# Altium integrated library Analog Devices RF IF Timing ICs and Clocks.IntLib: 168 symbols (part 13 of 18)
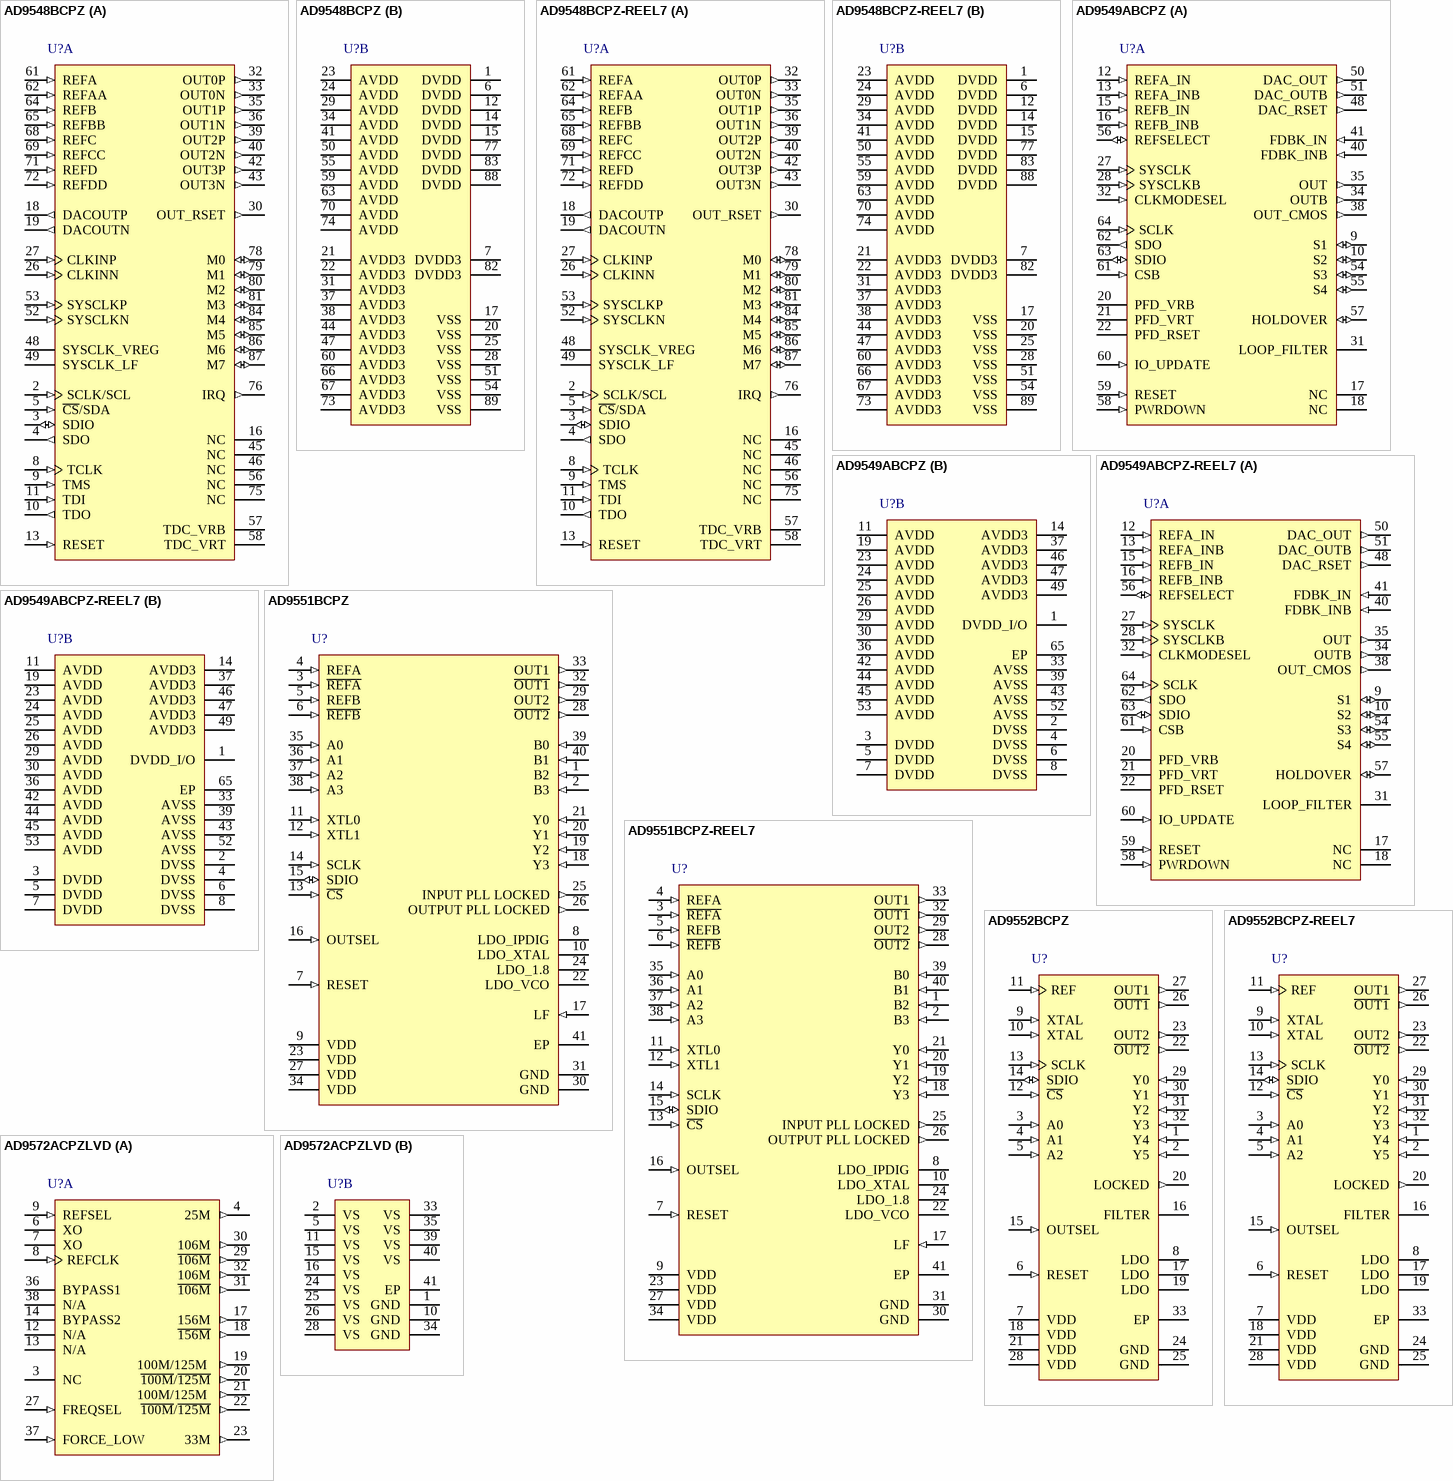
[diagram p27: symbols AD9548BCPZ to AD9572ACPZLVD]

## AD9549ABCPZ
designator U?
Dual Input Network ClockGenerator/Synchronizer, CP-64-7, Pb-Free, 260 Tray; Product Description: Clock Generator Synchronizer; +Supply Voltage (V): 3.3; Inputs: 2; Dividers: 1; On-Chip VCO or DCO: Yes; Max f-out (MHz): 750; Output Logic: CMOS; HSTL; DatasheetVersion: Rev. D; PackageVersion: 062209-A; PackageReference: CP-64-7; PackageDescription: 64-Lead Lead Frame Chip Scale Package [LFCSP_VQ]; Outputs: 2; Code_JEDEC: MO-220-VMMD-4; ComponentLink1Description: Manufacturer URL; ComponentLink1URL: www.analog.com; ComponentLink2Description: Datasheet; ComponentLink2URL: http://www.analog.com/static/imported-files/data_sheets/AD9549.pdf; ComponentLink3Description: Package Specification; ComponentLink3URL: http://www.analog.com/static/imported-files/packages/PKG_PDF/LFCSP(CP)/CP_64_7.pdf
footprint ADI-CP-64-7_N (QFN, 64-Leads, Body 9x9mm, Pitch 0.5mm, Thermal Pad 5.2x5.2mm, IPC Medium Density)
footprint ADI-CP-64-7_L (QFN, 64-Leads, Body 9x9mm, Pitch 0.5mm, Thermal Pad 5.2x5.2mm, IPC High Density)
footprint ADI-CP-64-7_M (QFN, 64-Leads, Body 9x9mm, Pitch 0.5mm, Thermal Pad 5.2x5.2mm, IPC Low Density)
part A pins: 9 S1 (io) "Configurable I/O Pins. [see datasheet]", 10 S2 (io) "Configurable I/O Pins. [see datasheet]", 12 REFA_IN (in) "Frequency/Phase Reference A Input. [see datasheet]", 13 REFA_INB (in) "Complementary Frequency/Phase Reference A Input. Complementary signal to the input provided on Pin 12. If using a single-ended, dc-coupled CMOS signal into REFA_IN, bypass this pin to ground with a 0.01 uF capacitor", 15 REFB_IN (in) "Frequency/Phase Reference B Input. This internally biased input is typically ac-coupled and, when configured as such, can accept any differential signal with single-ended swing between 0.4 V and 3.3 V. If dc-coupled, LVPECL or CMOS input is preferred.", 16 REFB_INB (in) "Complementary Frequency/Phase Reference B Input. Complementary signal to the input provided on Pin 15. If using a single-ended, dc-coupled CMOS signal into REFB_IN, bypass this pin to ground with a 0.01 uF capacitor.", 17 NC "No Connect. These are excess, unused pins that can be left floating", 18 NC "No Connect. These are excess, unused pins that can be left floating", 20 PFD_VRB "These pins must be capacitively decoupled. See the Phase Detector Pin Connections section for details.", 21 PFD_VRT "These pins must be capacitively decoupled. See the Phase Detector Pin Connections section for details.", 22 PFD_RSET "Connect a 5 K ohm resistor from this pin to ground (see the Phase Detector Pin Connections section).", 27 SYSCLK (in) "System Clock Input. The system clock input has internal dc biasing and should always be ac-coupled, except when using a crystal. [see datasheet]", 28 SYSCLKB (in) "Complementary System Clock. Complementary signal to the input provided on Pin 27. Use a 0.01 uF capacitor to ground on this pin if the signal provided on Pin 27 is single-ended.", 31 LOOP_FILTER "System Clock Multiplier Loop Filter. When using the frequency multiplier to drive the system clock, an external loop filter must be constructed and attached to this pin. [see datasheet]", 32 CLKMODESEL (in) "Clock Mode Select. Set to GND when connecting a crystal to the system clock input (Pin 27 and Pin 28). Pull up to 1.8 V when using either an oscillator or an external clock source. [see datasheet]", 34 OUTB (out) "Complementary HSTL Output. See the Specifications and Primary 1.8 V Differential HSTL Driver sections for details.", 35 OUT (out) "HSTL Output. See the Specifications and Primary 1.8 V Differential HSTL Driver sections for details.", 38 OUT_CMOS (out) "CMOS Output. See the Specifications and the Output Clock Drivers and 2× Frequency Multiplier sections. This pin is 1.8 V CMOS if Pin 37 is set to 1.8 V.", 40 FDBK_INB (in) "Complementary Feedback Input. In standard operating mode, this pin is connected to the filtered DAC_OUTB output. [see datasheet]", 41 FDBK_IN (in) "Feedback Input. In standard operating mode, this pin is connected to the filtered DAC_OUT output.", 48 DAC_RSET (out) "DAC Output Current Setting Resistor. Connect a resistor (usually 10 K ohm) from this pin to GND. See the DAC Output section.", 50 DAC_OUT (out) "DAC Output. This signal should be filtered and sent back on chip through FDBK_IN input. This pin has an internal 50  ohm pull-down resistor.", 51 DAC_OUTB (out) "Complementary DAC Output. This signal should be filtered and sent back on chip through FDBK_INB input. This pin has an internal 50  ohm pull-down resistor.", 54 S3 (io) "Configurable I/O Pins. These pins are configured under program control (see the Status and Warnings section) and do not have internal pull-up/pull-down resistors.", 55 S4 (io) "Configurable I/O Pins. These pins are configured under program control (see the Status and Warnings section) and do not have internal pull-up/pull-down resistors.", 56 REFSELECT (io) "Reference Select Input. In manual mode, the REFSELECT pin operates as a high impedance input pin; and in automatic mode, [see datasheet].", 57 HOLDOVER (io) "Holdover (Active High). In manual holdover mode, this pin is used to force the AD9549 into holdover mode. In automatic holdover mode, it indicates holdover status. There is no internal pull-up/pull-down resistor on this pin.", 58 PWRDOWN (in) "Power-Down. When this active high pin is asserted, the device becomes inactive and enters the full power-down state. This pin has an internal 50 K ohm pull-down resistor.", 59 RESET (in) "Chip Reset. When this active high pin is asserted, the chip goes into reset. Note that on power-up, it is recommended that the user assert a high to low edge after the power supplies reach a threshold and stabilize. [see datasheet].", 60 IO_UPDATE (in) "I/O Update. A logic transition from 0 to 1 on this pin transfers data from the I/O port registers to the control registers (see the Write section). This pin has an internal 50 K ohm pull-down resistor.", 61 CSB (in) "Chip Select. Active low. When programming a device, this pin must be held low. In systems where more than one AD9549 is present, this pin enables individual programming of each AD9549. This pin has an internal 100 K ohm pull-up resistor.", 62 SDO (out) "Serial Data Output. When the device is in 3-wire mode, data is read on this pin. There is no internal pull-up/pull-down resistor on this pin.", 63 SDIO (io) "Serial Data Input/Output. When the device is in 3-wire mode, data is written via this pin. In 2-wire mode, data reads and writes both occur on this pin. There is no internal pull-up/pull-down resistor on this pin.", 64 SCLK (in) "Serial Programming Clock. Data clock for serial programming. This pin has an internal 50 K ohm pull-down resistor."
part B pins: 1 DVDD_I/O (power) "I/O Digital Supply.", 2 DVSS (power) "Digital Ground. Connect to ground", 3 DVDD (power) "Digital Supply.", 4 DVSS (power) "Digital Ground. Connect to ground", 5 DVDD (power) "Digital Supply.", 6 DVSS (power) "Digital Ground. Connect to ground", 7 DVDD (power) "Digital Supply.", 8 DVSS (power) "Digital Ground. Connect to ground", 11 AVDD (power) "Analog Supply. Connect to a nominal 1.8 V supply", 14 AVDD3 (power) "Analog Supply. Connect to a nominal 3.3 V supply", 19 AVDD (power) "Analog Supply. Connect to a nominal 1.8 V supply", 23 AVDD (power) "Analog Supply. Connect to a nominal 1.8 V supply", 24 AVDD (power) "Analog Supply. Connect to a nominal 1.8 V supply", 25 AVDD (power) "Analog Supply. Connect to a nominal 1.8 V supply", 26 AVDD (power) "Analog Supply. Connect to a nominal 1.8 V supply", 29 AVDD (power) "Analog Supply. Connect to a nominal 1.8 V supply", 30 AVDD (power) "Analog Supply. Connect to a nominal 1.8 V supply", 33 AVSS (power) "Analog Ground. Connect to ground.", 36 AVDD (power) "Analog Supply. Connect to a nominal 1.8 V supply", 37 AVDD3 (power) "Analog Supply. Connect to a nominal 3.3 V supply", 39 AVSS (power) "Analog Ground. Connect to ground.", 42 AVDD (power) "Analog Supply. Connect to a nominal 1.8 V supply", 43 AVSS (power) "Analog Ground. Connect to ground.", 44 AVDD (power) "Analog Supply. Connect to a nominal 1.8 V supply", 45 AVDD (power) "Analog Supply. Connect to a nominal 1.8 V supply", 46 AVDD3 (power) "Analog Supply. Connect to a nominal 3.3 V supply", 47 AVDD3 (power) "Analog Supply. Connect to a nominal 3.3 V supply", 49 AVDD3 (power) "Analog Supply. Connect to a nominal 3.3 V supply", 52 AVSS (power) "Analog Ground. Connect to ground.", 53 AVDD (power) "Analog Supply. Connect to a nominal 1.8 V supply", 65 EP (power) "Analog Ground. The exposed thermal pad on the bottom of the package pro-vides the analog ground for the part. This exposed pad must be connected to ground for proper operation."

## AD9549ABCPZ-REEL7
designator U?
Dual Input Network ClockGenerator/Synchronizer, CP-64-7, Pb-Free, 750 Reel; Product Description: Clock Generator Synchronizer; +Supply Voltage (V): 3.3; Inputs: 2; Dividers: 1; On-Chip VCO or DCO: Yes; Max f-out (MHz): 750; Output Logic: CMOS; HSTL; DatasheetVersion: Rev. D; PackageVersion: 062209-A; PackageReference: CP-64-7; PackageDescription: 64-Lead Lead Frame Chip Scale Package [LFCSP_VQ]; Outputs: 2; Code_JEDEC: MO-220-VMMD-4; ComponentLink1Description: Manufacturer URL; ComponentLink1URL: www.analog.com; ComponentLink2Description: Datasheet; ComponentLink2URL: http://www.analog.com/static/imported-files/data_sheets/AD9549.pdf; ComponentLink3Description: Package Specification; ComponentLink3URL: http://www.analog.com/static/imported-files/packages/PKG_PDF/LFCSP(CP)/CP_64_7.pdf
footprint ADI-CP-64-7_N (QFN, 64-Leads, Body 9x9mm, Pitch 0.5mm, Thermal Pad 5.2x5.2mm, IPC Medium Density)
footprint ADI-CP-64-7_L (QFN, 64-Leads, Body 9x9mm, Pitch 0.5mm, Thermal Pad 5.2x5.2mm, IPC High Density)
footprint ADI-CP-64-7_M (QFN, 64-Leads, Body 9x9mm, Pitch 0.5mm, Thermal Pad 5.2x5.2mm, IPC Low Density)
part A pins: 9 S1 (io) "Configurable I/O Pins. [see datasheet]", 10 S2 (io) "Configurable I/O Pins. [see datasheet]", 12 REFA_IN (in) "Frequency/Phase Reference A Input. [see datasheet]", 13 REFA_INB (in) "Complementary Frequency/Phase Reference A Input. Complementary signal to the input provided on Pin 12. If using a single-ended, dc-coupled CMOS signal into REFA_IN, bypass this pin to ground with a 0.01 uF capacitor", 15 REFB_IN (in) "Frequency/Phase Reference B Input. This internally biased input is typically ac-coupled and, when configured as such, can accept any differential signal with single-ended swing between 0.4 V and 3.3 V. If dc-coupled, LVPECL or CMOS input is preferred.", 16 REFB_INB (in) "Complementary Frequency/Phase Reference B Input. Complementary signal to the input provided on Pin 15. If using a single-ended, dc-coupled CMOS signal into REFB_IN, bypass this pin to ground with a 0.01 uF capacitor.", 17 NC "No Connect. These are excess, unused pins that can be left floating", 18 NC "No Connect. These are excess, unused pins that can be left floating", 20 PFD_VRB "These pins must be capacitively decoupled. See the Phase Detector Pin Connections section for details.", 21 PFD_VRT "These pins must be capacitively decoupled. See the Phase Detector Pin Connections section for details.", 22 PFD_RSET "Connect a 5 K ohm resistor from this pin to ground (see the Phase Detector Pin Connections section).", 27 SYSCLK (in) "System Clock Input. The system clock input has internal dc biasing and should always be ac-coupled, except when using a crystal. [see datasheet]", 28 SYSCLKB (in) "Complementary System Clock. Complementary signal to the input provided on Pin 27. Use a 0.01 uF capacitor to ground on this pin if the signal provided on Pin 27 is single-ended.", 31 LOOP_FILTER "System Clock Multiplier Loop Filter. When using the frequency multiplier to drive the system clock, an external loop filter must be constructed and attached to this pin. [see datasheet]", 32 CLKMODESEL (in) "Clock Mode Select. Set to GND when connecting a crystal to the system clock input (Pin 27 and Pin 28). Pull up to 1.8 V when using either an oscillator or an external clock source. [see datasheet]", 34 OUTB (out) "Complementary HSTL Output. See the Specifications and Primary 1.8 V Differential HSTL Driver sections for details.", 35 OUT (out) "HSTL Output. See the Specifications and Primary 1.8 V Differential HSTL Driver sections for details.", 38 OUT_CMOS (out) "CMOS Output. See the Specifications and the Output Clock Drivers and 2× Frequency Multiplier sections. This pin is 1.8 V CMOS if Pin 37 is set to 1.8 V.", 40 FDBK_INB (in) "Complementary Feedback Input. In standard operating mode, this pin is connected to the filtered DAC_OUTB output. [see datasheet]", 41 FDBK_IN (in) "Feedback Input. In standard operating mode, this pin is connected to the filtered DAC_OUT output.", 48 DAC_RSET (out) "DAC Output Current Setting Resistor. Connect a resistor (usually 10 K ohm) from this pin to GND. See the DAC Output section.", 50 DAC_OUT (out) "DAC Output. This signal should be filtered and sent back on chip through FDBK_IN input. This pin has an internal 50  ohm pull-down resistor.", 51 DAC_OUTB (out) "Complementary DAC Output. This signal should be filtered and sent back on chip through FDBK_INB input. This pin has an internal 50  ohm pull-down resistor.", 54 S3 (io) "Configurable I/O Pins. These pins are configured under program control (see the Status and Warnings section) and do not have internal pull-up/pull-down resistors.", 55 S4 (io) "Configurable I/O Pins. These pins are configured under program control (see the Status and Warnings section) and do not have internal pull-up/pull-down resistors.", 56 REFSELECT (io) "Reference Select Input. In manual mode, the REFSELECT pin operates as a high impedance input pin; and in automatic mode, [see datasheet].", 57 HOLDOVER (io) "Holdover (Active High). In manual holdover mode, this pin is used to force the AD9549 into holdover mode. In automatic holdover mode, it indicates holdover status. There is no internal pull-up/pull-down resistor on this pin.", 58 PWRDOWN (in) "Power-Down. When this active high pin is asserted, the device becomes inactive and enters the full power-down state. This pin has an internal 50 K ohm pull-down resistor.", 59 RESET (in) "Chip Reset. When this active high pin is asserted, the chip goes into reset. Note that on power-up, it is recommended that the user assert a high to low edge after the power supplies reach a threshold and stabilize. [see datasheet].", 60 IO_UPDATE (in) "I/O Update. A logic transition from 0 to 1 on this pin transfers data from the I/O port registers to the control registers (see the Write section). This pin has an internal 50 K ohm pull-down resistor.", 61 CSB (in) "Chip Select. Active low. When programming a device, this pin must be held low. In systems where more than one AD9549 is present, this pin enables individual programming of each AD9549. This pin has an internal 100 K ohm pull-up resistor.", 62 SDO (out) "Serial Data Output. When the device is in 3-wire mode, data is read on this pin. There is no internal pull-up/pull-down resistor on this pin.", 63 SDIO (io) "Serial Data Input/Output. When the device is in 3-wire mode, data is written via this pin. In 2-wire mode, data reads and writes both occur on this pin. There is no internal pull-up/pull-down resistor on this pin.", 64 SCLK (in) "Serial Programming Clock. Data clock for serial programming. This pin has an internal 50 K ohm pull-down resistor."
part B pins: 1 DVDD_I/O (power) "I/O Digital Supply.", 2 DVSS (power) "Digital Ground. Connect to ground", 3 DVDD (power) "Digital Supply.", 4 DVSS (power) "Digital Ground. Connect to ground", 5 DVDD (power) "Digital Supply.", 6 DVSS (power) "Digital Ground. Connect to ground", 7 DVDD (power) "Digital Supply.", 8 DVSS (power) "Digital Ground. Connect to ground", 11 AVDD (power) "Analog Supply. Connect to a nominal 1.8 V supply", 14 AVDD3 (power) "Analog Supply. Connect to a nominal 3.3 V supply", 19 AVDD (power) "Analog Supply. Connect to a nominal 1.8 V supply", 23 AVDD (power) "Analog Supply. Connect to a nominal 1.8 V supply", 24 AVDD (power) "Analog Supply. Connect to a nominal 1.8 V supply", 25 AVDD (power) "Analog Supply. Connect to a nominal 1.8 V supply", 26 AVDD (power) "Analog Supply. Connect to a nominal 1.8 V supply", 29 AVDD (power) "Analog Supply. Connect to a nominal 1.8 V supply", 30 AVDD (power) "Analog Supply. Connect to a nominal 1.8 V supply", 33 AVSS (power) "Analog Ground. Connect to ground.", 36 AVDD (power) "Analog Supply. Connect to a nominal 1.8 V supply", 37 AVDD3 (power) "Analog Supply. Connect to a nominal 3.3 V supply", 39 AVSS (power) "Analog Ground. Connect to ground.", 42 AVDD (power) "Analog Supply. Connect to a nominal 1.8 V supply", 43 AVSS (power) "Analog Ground. Connect to ground.", 44 AVDD (power) "Analog Supply. Connect to a nominal 1.8 V supply", 45 AVDD (power) "Analog Supply. Connect to a nominal 1.8 V supply", 46 AVDD3 (power) "Analog Supply. Connect to a nominal 3.3 V supply", 47 AVDD3 (power) "Analog Supply. Connect to a nominal 3.3 V supply", 49 AVDD3 (power) "Analog Supply. Connect to a nominal 3.3 V supply", 52 AVSS (power) "Analog Ground. Connect to ground.", 53 AVDD (power) "Analog Supply. Connect to a nominal 1.8 V supply", 65 EP (power) "Analog Ground. The exposed thermal pad on the bottom of the package pro-vides the analog ground for the part. This exposed pad must be connected to ground for proper operation."

## AD9551BCPZ
designator U?
Multiservice Clock Generator, CP-40-8, Pb-Free, 490 Tray; +Supply Voltage (V): 3.3; Inputs: 2; On-Chip VCO or DCO: Yes; Max f-out (MHz): 900; Output Logic: CMOS; LVDS; LVPECL; DatasheetVersion: Rev. B; PackageVersion: 082708-A; PackageReference: CP-40-8; PackageDescription: 40-Lead Lead Frame Chip Scale Package [LFCSP_VQ]; Product Description: Multiservice Clock Generator; Outputs: 2; Code_JEDEC: MO-220-VJJD-2; ComponentLink1Description: Manufacturer URL; ComponentLink1URL: www.analog.com; ComponentLink2Description: Datasheet; ComponentLink2URL: http://www.analog.com/static/imported-files/data_sheets/AD9551.pdf; ComponentLink3Description: Package Specification; ComponentLink3URL: http://www.analog.com/static/imported-files/packages/PKG_PDF/LFCSP(CP)/CP_40_8.pdf
footprint ADI-CP-40-8_N (QFN, 40-Leads, Body 6x6mm, Pitch 0.5mm, Thermal Pad 2.9x2.9mm, IPC Medium Density)
footprint ADI-CP-40-8_L (QFN, 40-Leads, Body 6x6mm, Pitch 0.5mm, Thermal Pad 2.9x2.9mm, IPC High Density)
footprint ADI-CP-40-8_M (QFN, 40-Leads, Body 6x6mm, Pitch 0.5mm, Thermal Pad 2.9x2.9mm, IPC Low Density)
pins: 1 B2 (in) "Control Pin. Selects preset values for the REFB dividers.", 2 B3 (in) "Control Pin. Selects preset values for the REFB dividers.", 3 ~{REFA} (in) "Analog Input (Active High)-Complementary Reference Clock Input A.", 4 REFA (in) "Analog Input (Active High)-Reference Clock Input A.", 5 REFB (in) "Analog Input (Active High)-Reference Clock Input B.", 6 ~{REFB} (in) "Analog Input (Active High)-Complementary Reference Clock Input B.", 7 RESET (in) "Digital Input (Active High). Resets internal logic to default states. This pin has an internal 100 K ohm pull-up resistor, so the default state of the device is reset.", 8 LDO_IPDIG "LDO Decoupling Pin. Connect a 0.47 uF decoupling capacitor from this pin to ground.", 9 VDD (power) "Power Supply Connection (3.3 V Analog Supply).", 10 LDO_XTAL "LDO Decoupling Pin. Connect a 0.47 uF decoupling capacitor from this pin to ground.", 11 XTL0 (in) "Pin for Connecting an External Crystal (20 MHz to 30 MHz).", 12 XTL1 (in) "Pin for Connecting an External Crystal (20 MHz to 30 MHz).", 13 ~{CS} (in) "Digital Input Chip Select (Active Low).", 14 SCLK (in) "Serial Data Clock.", 15 SDIO (io) "Digital Serial Data Input/Output.", 16 OUTSEL (in) "Logic 0 selects LVDS, and Logic 1 selects LVPECL-compatible levels for both OUT1 and OUT2 when the outputs are not under SPI port control. Can be overridden via the programming registers.", 17 LF (in) "Loop Filter Node for the Output PLL. Connect an external 12 nF capacitor (100 nF in 19.44 MHz mode) from this pin to Pin 22 ( LDO_VCO).", 18 Y3 (in) "Control Pin. Selects preset values for the output PLL feedback dividers and OUT1 dividers.", 19 Y2 (in) "Control Pin. Selects preset values for the output PLL feedback dividers and OUT1 dividers.", 20 Y1 (in) "Control Pin. Selects preset values for the output PLL feedback dividers and OUT1 dividers.", 21 Y0 (in) "Control Pin. Selects preset values for the output PLL feedback dividers and OUT1 dividers.", 22 LDO_VCO "LDO Decoupling Pin. Connect a 0.47 uF decoupling capacitor from this pin to ground.", 23 VDD (power) "Power Supply Connection (3.3 V Analog Supply).", 24 LDO_1.8 "LDO Decoupling Pin. Connect a 0.47 uF decoupling capacitor from this pin to ground.", 25 INPUT PLL LOCKED (out) "Active High Locked Status Indicator for the Input PLL.", 26 OUTPUT PLL LOCKED (out) "Active High Locked Status Indicator for the Output PLL.", 27 VDD (power) "Power Supply Connection (3.3 V Analog Supply).", 28 ~{OUT2} (out) "Complementary Square Wave Clocking Output 2.", 29 OUT2 (out) "Square Wave Clocking Output 2.", 30 GND (power) "Analog Ground.", 31 GND (power) "Analog Ground.", 32 ~{OUT1} (out) "Complementary Square Wave Clocking Output 1.", 33 OUT1 (out) "Square Wave Clocking Output 1.", 34 VDD (power) "Power Supply Connection (3.3 V Analog Supply).", 35 A0 (in) "Control Pin. Selects preset values for the REFA dividers.", 36 A1 (in) "Control Pin. Selects preset values for the REFA dividers.", 37 A2 (in) "Control Pin. Selects preset values for the REFA dividers.", 38 A3 (in) "Control Pin. Selects preset values for the REFA dividers.", 39 B0 (in) "Control Pin. Selects preset values for the REFB dividers.", 40 B1 (in) "Control Pin. Selects preset values for the REFB dividers.", 41 EP (power) "The exposed die pad must be connected to GND."

## AD9551BCPZ-REEL7
designator U?
Multiservice Clock Generator, CP-40-8, Pb-Free, 750 Reel; +Supply Voltage (V): 3.3; Inputs: 2; On-Chip VCO or DCO: Yes; Max f-out (MHz): 900; Output Logic: CMOS; LVDS; LVPECL; DatasheetVersion: Rev. B; PackageVersion: 082708-A; PackageReference: CP-40-8; PackageDescription: 40-Lead Lead Frame Chip Scale Package [LFCSP_VQ]; Product Description: Multiservice Clock Generator; Outputs: 2; Code_JEDEC: MO-220-VJJD-2; ComponentLink1Description: Manufacturer URL; ComponentLink1URL: www.analog.com; ComponentLink2Description: Datasheet; ComponentLink2URL: http://www.analog.com/static/imported-files/data_sheets/AD9551.pdf; ComponentLink3Description: Package Specification; ComponentLink3URL: http://www.analog.com/static/imported-files/packages/PKG_PDF/LFCSP(CP)/CP_40_8.pdf
footprint ADI-CP-40-8_N (QFN, 40-Leads, Body 6x6mm, Pitch 0.5mm, Thermal Pad 2.9x2.9mm, IPC Medium Density)
footprint ADI-CP-40-8_L (QFN, 40-Leads, Body 6x6mm, Pitch 0.5mm, Thermal Pad 2.9x2.9mm, IPC High Density)
footprint ADI-CP-40-8_M (QFN, 40-Leads, Body 6x6mm, Pitch 0.5mm, Thermal Pad 2.9x2.9mm, IPC Low Density)
pins: 1 B2 (in) "Control Pin. Selects preset values for the REFB dividers.", 2 B3 (in) "Control Pin. Selects preset values for the REFB dividers.", 3 ~{REFA} (in) "Analog Input (Active High)-Complementary Reference Clock Input A.", 4 REFA (in) "Analog Input (Active High)-Reference Clock Input A.", 5 REFB (in) "Analog Input (Active High)-Reference Clock Input B.", 6 ~{REFB} (in) "Analog Input (Active High)-Complementary Reference Clock Input B.", 7 RESET (in) "Digital Input (Active High). Resets internal logic to default states. This pin has an internal 100 K ohm pull-up resistor, so the default state of the device is reset.", 8 LDO_IPDIG "LDO Decoupling Pin. Connect a 0.47 uF decoupling capacitor from this pin to ground.", 9 VDD (power) "Power Supply Connection (3.3 V Analog Supply).", 10 LDO_XTAL "LDO Decoupling Pin. Connect a 0.47 uF decoupling capacitor from this pin to ground.", 11 XTL0 (in) "Pin for Connecting an External Crystal (20 MHz to 30 MHz).", 12 XTL1 (in) "Pin for Connecting an External Crystal (20 MHz to 30 MHz).", 13 ~{CS} (in) "Digital Input Chip Select (Active Low).", 14 SCLK (in) "Serial Data Clock.", 15 SDIO (io) "Digital Serial Data Input/Output.", 16 OUTSEL (in) "Logic 0 selects LVDS, and Logic 1 selects LVPECL-compatible levels for both OUT1 and OUT2 when the outputs are not under SPI port control. Can be overridden via the programming registers.", 17 LF (in) "Loop Filter Node for the Output PLL. Connect an external 12 nF capacitor (100 nF in 19.44 MHz mode) from this pin to Pin 22 ( LDO_VCO).", 18 Y3 (in) "Control Pin. Selects preset values for the output PLL feedback dividers and OUT1 dividers.", 19 Y2 (in) "Control Pin. Selects preset values for the output PLL feedback dividers and OUT1 dividers.", 20 Y1 (in) "Control Pin. Selects preset values for the output PLL feedback dividers and OUT1 dividers.", 21 Y0 (in) "Control Pin. Selects preset values for the output PLL feedback dividers and OUT1 dividers.", 22 LDO_VCO "LDO Decoupling Pin. Connect a 0.47 uF decoupling capacitor from this pin to ground.", 23 VDD (power) "Power Supply Connection (3.3 V Analog Supply).", 24 LDO_1.8 "LDO Decoupling Pin. Connect a 0.47 uF decoupling capacitor from this pin to ground.", 25 INPUT PLL LOCKED (out) "Active High Locked Status Indicator for the Input PLL.", 26 OUTPUT PLL LOCKED (out) "Active High Locked Status Indicator for the Output PLL.", 27 VDD (power) "Power Supply Connection (3.3 V Analog Supply).", 28 ~{OUT2} (out) "Complementary Square Wave Clocking Output 2.", 29 OUT2 (out) "Square Wave Clocking Output 2.", 30 GND (power) "Analog Ground.", 31 GND (power) "Analog Ground.", 32 ~{OUT1} (out) "Complementary Square Wave Clocking Output 1.", 33 OUT1 (out) "Square Wave Clocking Output 1.", 34 VDD (power) "Power Supply Connection (3.3 V Analog Supply).", 35 A0 (in) "Control Pin. Selects preset values for the REFA dividers.", 36 A1 (in) "Control Pin. Selects preset values for the REFA dividers.", 37 A2 (in) "Control Pin. Selects preset values for the REFA dividers.", 38 A3 (in) "Control Pin. Selects preset values for the REFA dividers.", 39 B0 (in) "Control Pin. Selects preset values for the REFB dividers.", 40 B1 (in) "Control Pin. Selects preset values for the REFB dividers.", 41 EP (power) "The exposed die pad must be connected to GND."

## AD9552BCPZ
designator U?
Oscillator Frequency Upconverter, CP-32-2, Pb-Free, 490 Tray; Product Description: Fractional-N Phase Locked loop (PLL) Based Clock Generator; +Supply Voltage (V): 3.3; Inputs: 1; Outputs: 2; On-Chip VCO or DCO: Yes; Max f-out (MHz): 900; Output Logic: CMOS; LVDS; LVPECL; DatasheetVersion: Rev. D; PackageVersion: Jan-2005; PackageReference: CP-32-2; PackageDescription: 32-Lead Lead Frame Chip Scale Package [LFCSP_VQ]; Code_JEDEC: MO-220-VHHD-2; ComponentLink1Description: Manufacturer URL; ComponentLink1URL: www.analog.com; ComponentLink2Description: Datasheet; ComponentLink2URL: http://www.analog.com/static/imported-files/data_sheets/AD9552.pdf; ComponentLink3Description: Package Specification; ComponentLink3URL: http://www.analog.com/static/imported-files/packages/414143737956480539664569CP_32_2.pdf
footprint ADI-CP-32-2_N (QFN, 32-Leads, Body 5x5mm, Pitch 0.5mm, Thermal Pad 3.1x3.1mm, IPC Medium Density)
footprint ADI-CP-32-2_L (QFN, 32-Leads, Body 5x5mm, Pitch 0.5mm, Thermal Pad 3.1x3.1mm, IPC High Density)
footprint ADI-CP-32-2_M (QFN, 32-Leads, Body 5x5mm, Pitch 0.5mm, Thermal Pad 3.1x3.1mm, IPC Low Density)
pins: 1 Y4 (in) "Control Pins. These pins select preset values for the PLL feedback divider and the OUT1 dividers based on the input reference frequency selected via the A[0:2] pins and have internal 100 K ohm pull-up resistors.", 2 Y5 (in) "Control Pins. These pins select preset values for the PLL feedback divider and the OUT1 dividers based on the input reference frequency selected via the A[0:2] pins and have internal 100 K ohm pull-up resistors.", 3 A0 (in) "Control Pins. These pins select the input reference frequency and have internal 100 K ohm pull-up resistors.", 4 A1 (in) "Control Pins. These pins select the input reference frequency and have internal 100 K ohm pull-up resistors.", 5 A2 (in) "Control Pins. These pins select the input reference frequency and have internal 100 K ohm pull-up resistors.", 6 RESET (in) "Digital Input, Active High. Resets internal logic to default states. This pin has an internal 100 K ohm pull-up resistor, so the default state of the device is reset.", 7 VDD (power) "Power Supply Connection: 3.3 V Analog Supply.", 8 LDO "LDO Decoupling Pins. Connect a 0.47 uF decoupling capacitor from each of these pins to ground.", 9 XTAL (in) "Crystal Resonator Input. Connect a crystal resonator across these pins.2", 10 XTAL (in) "Crystal Resonator Input. Connect a crystal resonator across these pins.2", 11 REF (in) "Reference Clock Input. Connect this pin to an active clock input signal, or connect it to VDD when using a crystal resonator across the XTAL pins.", 12 ~{CS} (in) "Digital Input, Active Low, Chip Select.", 13 SCLK (in) "Serial Data Clock.", 14 SDIO (io) "Digital Serial Data Input/Output.", 15 OUTSEL (in) "Logic 0 selects LVDS and Logic 1 selects LVPECL-compatible levels for both OUT1 and OUT2 when the outputs are not under SPI port control. Can be overridden via the programming registers. This pin has an internal 100 K ohm pull-up resistor.", 16 FILTER "Loop Filter Node for the PLL. Connect an external 12 nF capacitor from this pin to Pin 17 (LDO).", 17 LDO "LDO Decoupling Pins. Connect a 0.47 uF decoupling capacitor from each of these pins to ground.", 18 VDD (power) "Power Supply Connection: 3.3 V Analog Supply.", 19 LDO "LDO Decoupling Pins. Connect a 0.47 uF decoupling capacitor from each of these pins to ground.", 20 LOCKED (out) "Active High Locked Status Indicator for the PLL.", 21 VDD (power) "Power Supply Connection: 3.3 V Analog Supply.", 22 ~{OUT2} (out) "Complementary Square Wave Clocking Outputs.", 23 OUT2 (out) "Square Wave Clocking Outputs.", 24 GND (power) "Analog Ground.", 25 GND (power) "Analog Ground.", 26 ~{OUT1} (out) "Complementary Square Wave Clocking Outputs.", 27 OUT1 (out) "Square Wave Clocking Outputs.", 28 VDD (power) "Power Supply Connection: 3.3 V Analog Supply.", 29 Y0 (in) "Control Pins. These pins select preset values for the PLL feedback divider and the OUT1 dividers based on the input reference frequency selected via the A[0:2] pins and have internal 100 K ohm pull-up resistors.", 30 Y1 (in) "Control Pins. These pins select preset values for the PLL feedback divider and the OUT1 dividers based on the input reference frequency selected via the A[0:2] pins and have internal 100 K ohm pull-up resistors.", 31 Y2 (in) "Control Pins. These pins select preset values for the PLL feedback divider and the OUT1 dividers based on the input reference frequency selected via the A[0:2] pins and have internal 100 K ohm pull-up resistors.", 32 Y3 (in) "Control Pins. These pins select preset values for the PLL feedback divider and the OUT1 dividers based on the input reference frequency selected via the A[0:2] pins and have internal 100 K ohm pull-up resistors.", 33 EP (power) "The exposed die pad must be connected to GND."

## AD9552BCPZ-REEL7
designator U?
Oscillator Frequency Upconverter, CP-32-2, Pb-Free, 1500 Reel; Product Description: Fractional-N Phase Locked loop (PLL) Based Clock Generator; +Supply Voltage (V): 3.3; Inputs: 1; Outputs: 2; On-Chip VCO or DCO: Yes; Max f-out (MHz): 900; Output Logic: CMOS; LVDS; LVPECL; DatasheetVersion: Rev. D; PackageVersion: Jan-2005; PackageReference: CP-32-2; PackageDescription: 32-Lead Lead Frame Chip Scale Package [LFCSP_VQ]; Code_JEDEC: MO-220-VHHD-2; ComponentLink1Description: Manufacturer URL; ComponentLink1URL: www.analog.com; ComponentLink2Description: Datasheet; ComponentLink2URL: http://www.analog.com/static/imported-files/data_sheets/AD9552.pdf; ComponentLink3Description: Package Specification; ComponentLink3URL: http://www.analog.com/static/imported-files/packages/414143737956480539664569CP_32_2.pdf
footprint ADI-CP-32-2_N (QFN, 32-Leads, Body 5x5mm, Pitch 0.5mm, Thermal Pad 3.1x3.1mm, IPC Medium Density)
footprint ADI-CP-32-2_L (QFN, 32-Leads, Body 5x5mm, Pitch 0.5mm, Thermal Pad 3.1x3.1mm, IPC High Density)
footprint ADI-CP-32-2_M (QFN, 32-Leads, Body 5x5mm, Pitch 0.5mm, Thermal Pad 3.1x3.1mm, IPC Low Density)
pins: 1 Y4 (in) "Control Pins. These pins select preset values for the PLL feedback divider and the OUT1 dividers based on the input reference frequency selected via the A[0:2] pins and have internal 100 K ohm pull-up resistors.", 2 Y5 (in) "Control Pins. These pins select preset values for the PLL feedback divider and the OUT1 dividers based on the input reference frequency selected via the A[0:2] pins and have internal 100 K ohm pull-up resistors.", 3 A0 (in) "Control Pins. These pins select the input reference frequency and have internal 100 K ohm pull-up resistors.", 4 A1 (in) "Control Pins. These pins select the input reference frequency and have internal 100 K ohm pull-up resistors.", 5 A2 (in) "Control Pins. These pins select the input reference frequency and have internal 100 K ohm pull-up resistors.", 6 RESET (in) "Digital Input, Active High. Resets internal logic to default states. This pin has an internal 100 K ohm pull-up resistor, so the default state of the device is reset.", 7 VDD (power) "Power Supply Connection: 3.3 V Analog Supply.", 8 LDO "LDO Decoupling Pins. Connect a 0.47 uF decoupling capacitor from each of these pins to ground.", 9 XTAL (in) "Crystal Resonator Input. Connect a crystal resonator across these pins.2", 10 XTAL (in) "Crystal Resonator Input. Connect a crystal resonator across these pins.2", 11 REF (in) "Reference Clock Input. Connect this pin to an active clock input signal, or connect it to VDD when using a crystal resonator across the XTAL pins.", 12 ~{CS} (in) "Digital Input, Active Low, Chip Select.", 13 SCLK (in) "Serial Data Clock.", 14 SDIO (io) "Digital Serial Data Input/Output.", 15 OUTSEL (in) "Logic 0 selects LVDS and Logic 1 selects LVPECL-compatible levels for both OUT1 and OUT2 when the outputs are not under SPI port control. Can be overridden via the programming registers. This pin has an internal 100 K ohm pull-up resistor.", 16 FILTER "Loop Filter Node for the PLL. Connect an external 12 nF capacitor from this pin to Pin 17 (LDO).", 17 LDO "LDO Decoupling Pins. Connect a 0.47 uF decoupling capacitor from each of these pins to ground.", 18 VDD (power) "Power Supply Connection: 3.3 V Analog Supply.", 19 LDO "LDO Decoupling Pins. Connect a 0.47 uF decoupling capacitor from each of these pins to ground.", 20 LOCKED (out) "Active High Locked Status Indicator for the PLL.", 21 VDD (power) "Power Supply Connection: 3.3 V Analog Supply.", 22 ~{OUT2} (out) "Complementary Square Wave Clocking Outputs.", 23 OUT2 (out) "Square Wave Clocking Outputs.", 24 GND (power) "Analog Ground.", 25 GND (power) "Analog Ground.", 26 ~{OUT1} (out) "Complementary Square Wave Clocking Outputs.", 27 OUT1 (out) "Square Wave Clocking Outputs.", 28 VDD (power) "Power Supply Connection: 3.3 V Analog Supply.", 29 Y0 (in) "Control Pins. These pins select preset values for the PLL feedback divider and the OUT1 dividers based on the input reference frequency selected via the A[0:2] pins and have internal 100 K ohm pull-up resistors.", 30 Y1 (in) "Control Pins. These pins select preset values for the PLL feedback divider and the OUT1 dividers based on the input reference frequency selected via the A[0:2] pins and have internal 100 K ohm pull-up resistors.", 31 Y2 (in) "Control Pins. These pins select preset values for the PLL feedback divider and the OUT1 dividers based on the input reference frequency selected via the A[0:2] pins and have internal 100 K ohm pull-up resistors.", 32 Y3 (in) "Control Pins. These pins select preset values for the PLL feedback divider and the OUT1 dividers based on the input reference frequency selected via the A[0:2] pins and have internal 100 K ohm pull-up resistors.", 33 EP (power) "The exposed die pad must be connected to GND."

## AD9572ACPZLVD
designator U?
Fiber Channel/Ethernet Clock Generator IC, 7 Clock Outputs, CP-40-7, Pb-Free, 490 Tray; Product Description: Multi-Output Clock Generator; +Supply Voltage (V): 3.3; Inputs: 1; Outputs: 7; Dividers: 3; On-Chip VCO or DCO: Yes; Max f-out (MHz): 156.25; Output Logic: LVDS; LVPECL; DatasheetVersion: Rev. B; PackageVersion: 012909-B; PackageReference: CP-40-7; PackageDescription: 40-Lead Lead Frame Chip Scale Package [LFCSP_WQ]; Code_JEDEC: MO-220-WJJD; ComponentLink1Description: Manufacturer URL; ComponentLink1URL: www.analog.com; ComponentLink2Description: Datasheet; ComponentLink2URL: http://www.analog.com/static/imported-files/data_sheets/AD9572.pdf; ComponentLink3Description: Package Specification; ComponentLink3URL: http://www.analog.com/static/imported-files/packages/PKG_PDF/LFCSP(CP)/CP-40/CP_40_7.pdf
footprint ADI-CP-40-7_N (QFN, 40-Leads, Body 6x6mm, Pitch 0.5mm, Thermal Pad 4.6x4.6mm, IPC Medium Density)
footprint ADI-CP-40-7_L (QFN, 40-Leads, Body 6x6mm, Pitch 0.5mm, Thermal Pad 4.6x4.6mm, IPC High Density)
footprint ADI-CP-40-7_M (QFN, 40-Leads, Body 6x6mm, Pitch 0.5mm, Thermal Pad 4.6x4.6mm, IPC Low Density)
part A pins: 3 NC "No Connect. This pin should be left floating", 4 25M (out) "CMOS 25 MHz Output", 6 XO "External 25 MHz Crystal", 7 XO "External 25 MHz Crystal", 8 REFCLK (in) "25 MHz Reference Clock Input. Tie low when not in use", 9 REFSEL (in) "Logic Input. Used to select the reference source", 12 N/A "Short to Pin 14", 13 N/A "Short to Pin 14", 14 BYPASS2 "These pins are for bypassing each LDO to ground with a 220 nF capacitor", 17 156M (out) "LVPECL/LVDS Output at 156.25 MHz.", 18 ~{156M} (out) "Complementary LVPECL/LVDS Output at 156.25 MHz", 19 100M/125M  (out) "LVPECL/LVDS Output at 100 MHz or 125 MHz. Selected by FREQSEL pin strapping", 20 ~{100M}/~{125M} (out) "Complementary LVPECL/LVDS Output at 100 MHz or 125 MHz", 21 100M/125M  (out) "LVPECL/LVDS Output at 100 MHz or 125 MHz. Selected by FREQSEL pin strapping", 22 ~{100M}/~{125M} (out) "Complementary LVPECL/LVDS Output at 100 MHz or 125 MHz", 23 33M (out) "CMOS 33.33 MHz Output", 27 FREQSEL (in) "Logic Input. Used to configure output drivers", 29 ~{106M} (out) "LVPECL/LVDS Output at 106.25 MHz", 30 106M (out) "Complementary LVPECL/LVDS Output at 106.25 MHz", 31 ~{106M} (out) "LVPECL/LVDS Output at 106.25 MHz", 32 106M (out) "Complementary LVPECL/LVDS Output at 106.25 MHz", 36 BYPASS1 "These pins are for bypassing each LDO to ground with a 220 nF capacitor", 37 FORCE_LOW (in) "Forces the 33.33 MHz output into a low state", 38 N/A "Short to Pin 36"
part B pins: 1 GND (power) "Ground. Includes external paddle (EPAD)", 2 VS (power) "Power Supply Connection for the 25M CMOS Buffer", 5 VS (power) "Power Supply Connection for the Crystal Oscillator", 10 GND (power) "Ground. Includes external paddle (EPAD)", 11 VS (power) "Power Supply Connection for the GbE PLL", 15 VS (power) "Power Supply Connection for the GbE VCO", 16 VS (power) "Power Supply Connection for the 156M LVDS Output Buffer and Output Dividers", 24 VS (power) "Power Supply Connection for the 33M CMOS Output Buffer and Output Dividers", 25 VS (power) "Power Supply Connection for the 100M/125M LVDS Output Buffer and Output Dividers", 26 VS (power) "Power Supply Connection for the GbE PLL Feedback Divider", 28 VS (power) "Power Supply Connection for the FC PLL Feedback Divider", 33 VS (power) "Power Supply Connection for the 106.25 MHz LVDS Output Buffer and Output Dividers", 34 GND (power) "Ground. Includes external paddle (EPAD)", 35 VS (power) "Power Supply Connection for the FC VCO", 39 VS (power) "Power Supply Connection for the FC PLL", 40 VS (power) "Power Supply Connection for Miscellaneous Logic", 41 EP (power) "Exposed Pad"

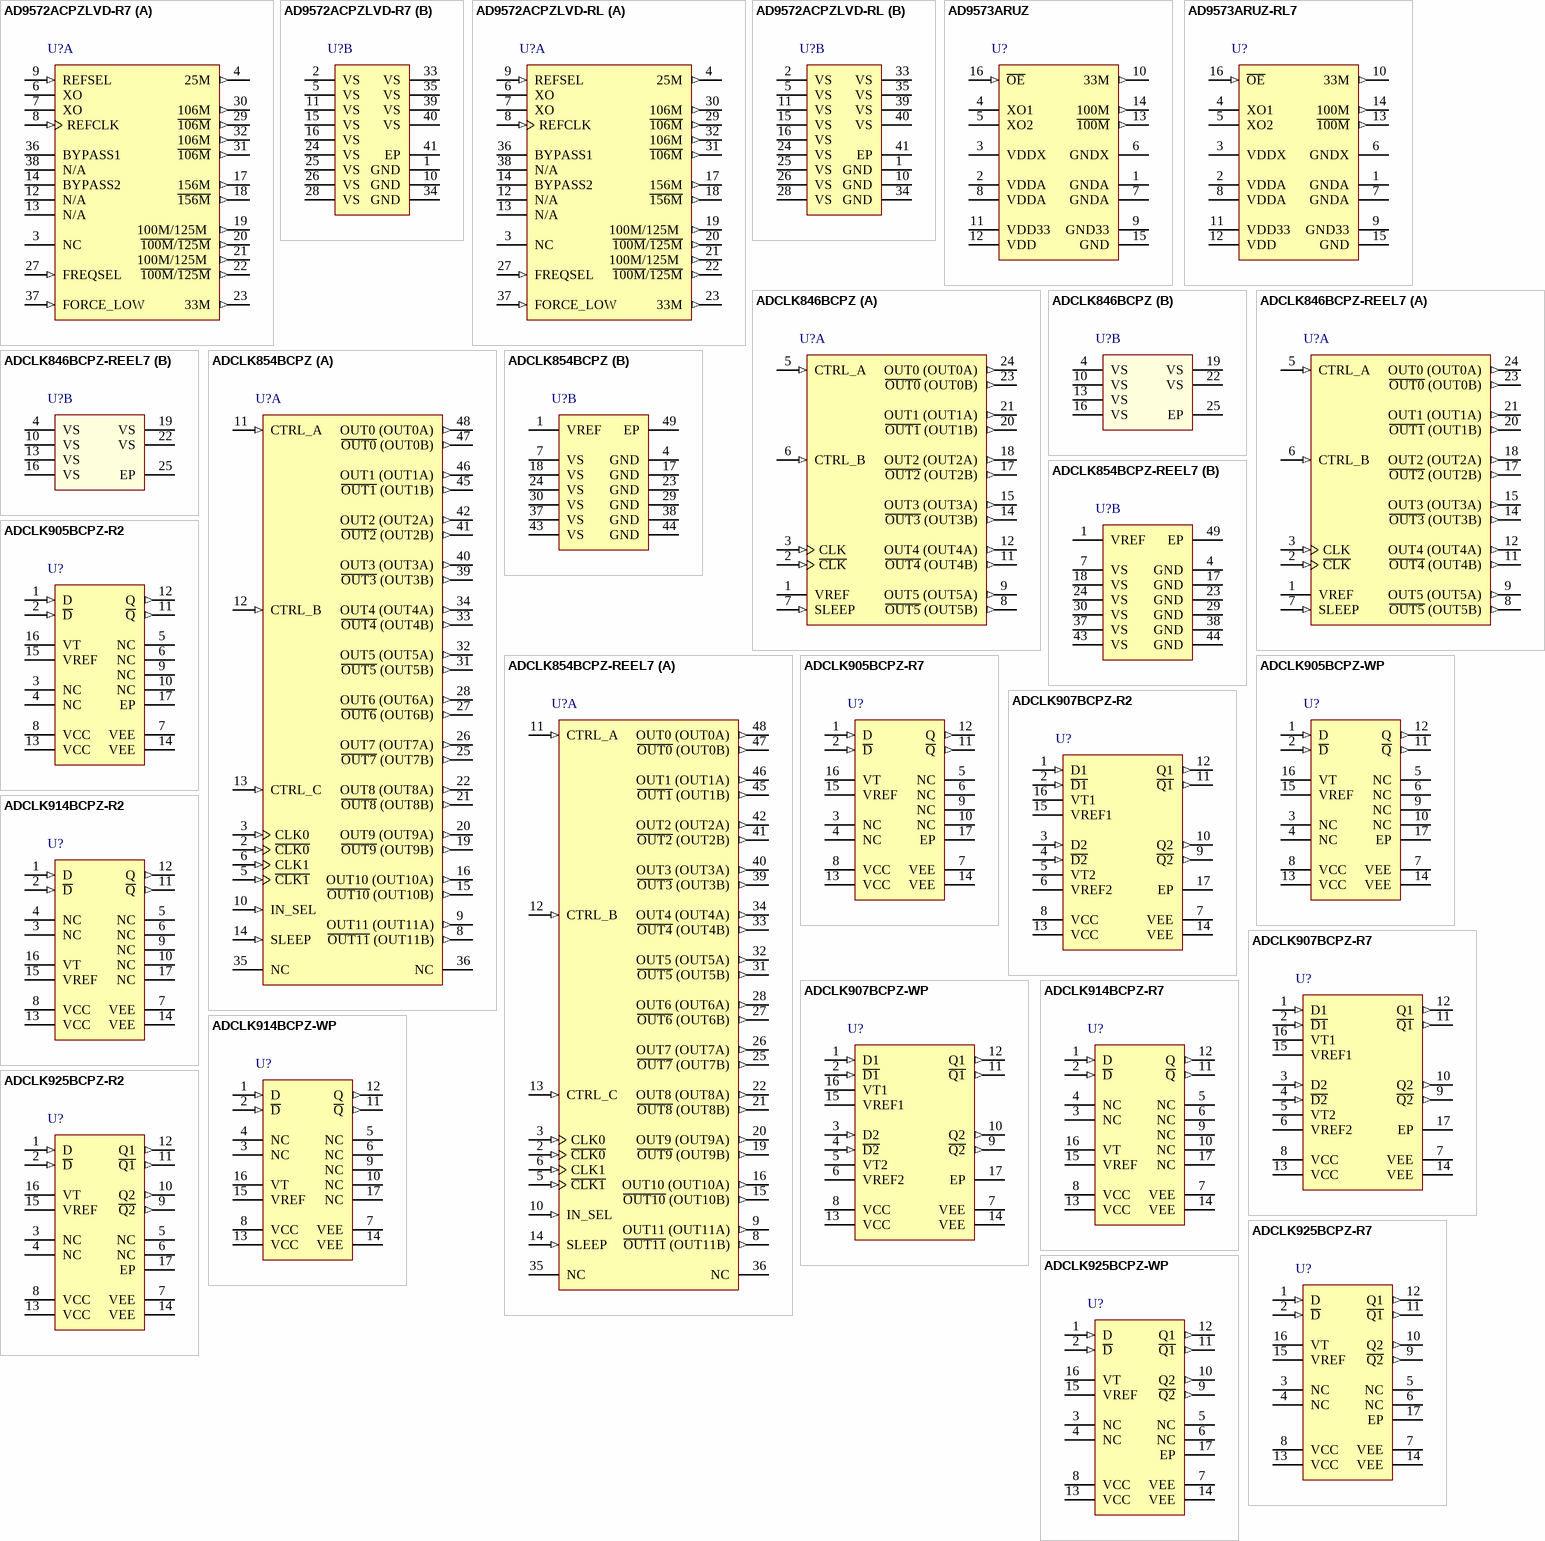
[diagram p11: symbols AD9572ACPZLVD-R7 to ADCLK925BCPZ-WP]

## AD9572ACPZLVD-R7
designator U?
Fiber Channel/Ethernet Clock Generator IC, 7 Clock Outputs, CP-40-7, Pb-Free, 750 Reel; Product Description: Multi-Output Clock Generator; +Supply Voltage (V): 3.3; Inputs: 1; Outputs: 7; Dividers: 3; On-Chip VCO or DCO: Yes; Max f-out (MHz): 156.25; Output Logic: LVDS; LVPECL; DatasheetVersion: Rev. B; PackageVersion: 012909-B; PackageReference: CP-40-7; PackageDescription: 40-Lead Lead Frame Chip Scale Package [LFCSP_WQ]; Code_JEDEC: MO-220-WJJD; ComponentLink1Description: Manufacturer URL; ComponentLink1URL: www.analog.com; ComponentLink2Description: Datasheet; ComponentLink2URL: http://www.analog.com/static/imported-files/data_sheets/AD9572.pdf; ComponentLink3Description: Package Specification; ComponentLink3URL: http://www.analog.com/static/imported-files/packages/PKG_PDF/LFCSP(CP)/CP-40/CP_40_7.pdf
footprint ADI-CP-40-7_N (QFN, 40-Leads, Body 6x6mm, Pitch 0.5mm, Thermal Pad 4.6x4.6mm, IPC Medium Density)
footprint ADI-CP-40-7_L (QFN, 40-Leads, Body 6x6mm, Pitch 0.5mm, Thermal Pad 4.6x4.6mm, IPC High Density)
footprint ADI-CP-40-7_M (QFN, 40-Leads, Body 6x6mm, Pitch 0.5mm, Thermal Pad 4.6x4.6mm, IPC Low Density)
part A pins: 3 NC "No Connect. This pin should be left floating", 4 25M (out) "CMOS 25 MHz Output", 6 XO "External 25 MHz Crystal", 7 XO "External 25 MHz Crystal", 8 REFCLK (in) "25 MHz Reference Clock Input. Tie low when not in use", 9 REFSEL (in) "Logic Input. Used to select the reference source", 12 N/A "Short to Pin 14", 13 N/A "Short to Pin 14", 14 BYPASS2 "These pins are for bypassing each LDO to ground with a 220 nF capacitor", 17 156M (out) "LVPECL/LVDS Output at 156.25 MHz.", 18 ~{156M} (out) "Complementary LVPECL/LVDS Output at 156.25 MHz", 19 100M/125M  (out) "LVPECL/LVDS Output at 100 MHz or 125 MHz. Selected by FREQSEL pin strapping", 20 ~{100M}/~{125M} (out) "Complementary LVPECL/LVDS Output at 100 MHz or 125 MHz", 21 100M/125M  (out) "LVPECL/LVDS Output at 100 MHz or 125 MHz. Selected by FREQSEL pin strapping", 22 ~{100M}/~{125M} (out) "Complementary LVPECL/LVDS Output at 100 MHz or 125 MHz", 23 33M (out) "CMOS 33.33 MHz Output", 27 FREQSEL (in) "Logic Input. Used to configure output drivers", 29 ~{106M} (out) "LVPECL/LVDS Output at 106.25 MHz", 30 106M (out) "Complementary LVPECL/LVDS Output at 106.25 MHz", 31 ~{106M} (out) "LVPECL/LVDS Output at 106.25 MHz", 32 106M (out) "Complementary LVPECL/LVDS Output at 106.25 MHz", 36 BYPASS1 "These pins are for bypassing each LDO to ground with a 220 nF capacitor", 37 FORCE_LOW (in) "Forces the 33.33 MHz output into a low state", 38 N/A "Short to Pin 36"
part B pins: 1 GND (power) "Ground. Includes external paddle (EPAD)", 2 VS (power) "Power Supply Connection for the 25M CMOS Buffer", 5 VS (power) "Power Supply Connection for the Crystal Oscillator", 10 GND (power) "Ground. Includes external paddle (EPAD)", 11 VS (power) "Power Supply Connection for the GbE PLL", 15 VS (power) "Power Supply Connection for the GbE VCO", 16 VS (power) "Power Supply Connection for the 156M LVDS Output Buffer and Output Dividers", 24 VS (power) "Power Supply Connection for the 33M CMOS Output Buffer and Output Dividers", 25 VS (power) "Power Supply Connection for the 100M/125M LVDS Output Buffer and Output Dividers", 26 VS (power) "Power Supply Connection for the GbE PLL Feedback Divider", 28 VS (power) "Power Supply Connection for the FC PLL Feedback Divider", 33 VS (power) "Power Supply Connection for the 106.25 MHz LVDS Output Buffer and Output Dividers", 34 GND (power) "Ground. Includes external paddle (EPAD)", 35 VS (power) "Power Supply Connection for the FC VCO", 39 VS (power) "Power Supply Connection for the FC PLL", 40 VS (power) "Power Supply Connection for Miscellaneous Logic", 41 EP (power) "Exposed Pad"

## AD9572ACPZLVD-RL
designator U?
Fiber Channel/Ethernet Clock Generator IC, 7 Clock Outputs, CP-40-7, Pb-Free, 2500 Reel; Product Description: Multi-Output Clock Generator; +Supply Voltage (V): 3.3; Inputs: 1; Outputs: 7; Dividers: 3; On-Chip VCO or DCO: Yes; Max f-out (MHz): 156.25; Output Logic: LVDS; LVPECL; DatasheetVersion: Rev. B; PackageVersion: 012909-B; PackageReference: CP-40-7; PackageDescription: 40-Lead Lead Frame Chip Scale Package [LFCSP_WQ]; Code_JEDEC: MO-220-WJJD; ComponentLink1Description: Manufacturer URL; ComponentLink1URL: www.analog.com; ComponentLink2Description: Datasheet; ComponentLink2URL: http://www.analog.com/static/imported-files/data_sheets/AD9572.pdf; ComponentLink3Description: Package Specification; ComponentLink3URL: http://www.analog.com/static/imported-files/packages/PKG_PDF/LFCSP(CP)/CP-40/CP_40_7.pdf
footprint ADI-CP-40-7_N (QFN, 40-Leads, Body 6x6mm, Pitch 0.5mm, Thermal Pad 4.6x4.6mm, IPC Medium Density)
footprint ADI-CP-40-7_L (QFN, 40-Leads, Body 6x6mm, Pitch 0.5mm, Thermal Pad 4.6x4.6mm, IPC High Density)
footprint ADI-CP-40-7_M (QFN, 40-Leads, Body 6x6mm, Pitch 0.5mm, Thermal Pad 4.6x4.6mm, IPC Low Density)
part A pins: 3 NC "No Connect. This pin should be left floating", 4 25M (out) "CMOS 25 MHz Output", 6 XO "External 25 MHz Crystal", 7 XO "External 25 MHz Crystal", 8 REFCLK (in) "25 MHz Reference Clock Input. Tie low when not in use", 9 REFSEL (in) "Logic Input. Used to select the reference source", 12 N/A "Short to Pin 14", 13 N/A "Short to Pin 14", 14 BYPASS2 "These pins are for bypassing each LDO to ground with a 220 nF capacitor", 17 156M (out) "LVPECL/LVDS Output at 156.25 MHz.", 18 ~{156M} (out) "Complementary LVPECL/LVDS Output at 156.25 MHz", 19 100M/125M  (out) "LVPECL/LVDS Output at 100 MHz or 125 MHz. Selected by FREQSEL pin strapping", 20 ~{100M}/~{125M} (out) "Complementary LVPECL/LVDS Output at 100 MHz or 125 MHz", 21 100M/125M  (out) "LVPECL/LVDS Output at 100 MHz or 125 MHz. Selected by FREQSEL pin strapping", 22 ~{100M}/~{125M} (out) "Complementary LVPECL/LVDS Output at 100 MHz or 125 MHz", 23 33M (out) "CMOS 33.33 MHz Output", 27 FREQSEL (in) "Logic Input. Used to configure output drivers", 29 ~{106M} (out) "LVPECL/LVDS Output at 106.25 MHz", 30 106M (out) "Complementary LVPECL/LVDS Output at 106.25 MHz", 31 ~{106M} (out) "LVPECL/LVDS Output at 106.25 MHz", 32 106M (out) "Complementary LVPECL/LVDS Output at 106.25 MHz", 36 BYPASS1 "These pins are for bypassing each LDO to ground with a 220 nF capacitor", 37 FORCE_LOW (in) "Forces the 33.33 MHz output into a low state", 38 N/A "Short to Pin 36"
part B pins: 1 GND (power) "Ground. Includes external paddle (EPAD)", 2 VS (power) "Power Supply Connection for the 25M CMOS Buffer", 5 VS (power) "Power Supply Connection for the Crystal Oscillator", 10 GND (power) "Ground. Includes external paddle (EPAD)", 11 VS (power) "Power Supply Connection for the GbE PLL", 15 VS (power) "Power Supply Connection for the GbE VCO", 16 VS (power) "Power Supply Connection for the 156M LVDS Output Buffer and Output Dividers", 24 VS (power) "Power Supply Connection for the 33M CMOS Output Buffer and Output Dividers", 25 VS (power) "Power Supply Connection for the 100M/125M LVDS Output Buffer and Output Dividers", 26 VS (power) "Power Supply Connection for the GbE PLL Feedback Divider", 28 VS (power) "Power Supply Connection for the FC PLL Feedback Divider", 33 VS (power) "Power Supply Connection for the 106.25 MHz LVDS Output Buffer and Output Dividers", 34 GND (power) "Ground. Includes external paddle (EPAD)", 35 VS (power) "Power Supply Connection for the FC VCO", 39 VS (power) "Power Supply Connection for the FC PLL", 40 VS (power) "Power Supply Connection for Miscellaneous Logic", 41 EP (power) "Exposed Pad"

## AD9573ARUZ
designator U?
PCI-Express Clock Generator IC, PLL Core, Dividers, Two Outputs, RU-16, Pb-Free, 96 Tube; +Supply Voltage (V): 3.3; Inputs: 1; Outputs: 2; On-Chip VCO or DCO: Yes; Max f-out (MHz): 100; Output Logic: LVCMOS; LVDS; DatasheetVersion: Rev. 0; PackageVersion: Nov-2002; PackageReference: RU-16; PackageDescription: 16-Lead Thin Shrink Small Outline Package [TSSOP]; Product Description: PCI-EXPRESS CLOCK GENERATOR IC, PLL CORE, DIVIDERS, TWO OUTPUTS; Dividers: 2; Code_JEDEC: MO-153AB; ComponentLink1Description: Manufacturer URL; ComponentLink1URL: www.analog.com; ComponentLink2Description: Datasheet; ComponentLink2URL: http://www.analog.com/static/imported-files/data_sheets/AD9573.pdf; ComponentLink3Description: Package Specification; ComponentLink3URL: http://www.analog.com/static/imported-files/packages/36244347913743854010197452789RU16.pdf
footprint ADI-RU-16_N (TSOP, 16-Leads, Body 5x4.4mm, Pitch 0.65mm, IPC Medium Density)
footprint ADI-RU-16_L (TSOP, 16-Leads, Body 5x4.4mm, Pitch 0.65mm, IPC High Density)
footprint ADI-RU-16_M (TSOP, 16-Leads, Body 5x4.4mm, Pitch 0.65mm, IPC Low Density)
pins: 1 GNDA (power) "Analog Ground.", 2 VDDA (power) "Analog Power Supply (3.3 V).", 3 VDDX (power) "Crystal Oscillator Power Supply.", 4 XO1 "External 25 MHz Crystal.", 5 XO2 "External 25 MHz Crystal.", 6 GNDX (power) "Crystal Oscillator Ground", 7 GNDA (power) "Analog Ground.", 8 VDDA (power) "Analog Power Supply (3.3 V).", 9 GND33 (power) "Ground for LVCMOS Output.", 10 33M (out) "LVCMOS Output at 33.33 MHz.", 11 VDD33 (power) "Power Supply for LVCMOS Output.", 12 VDD (power) "Power Supply for LVDS Output.", 13 ~{100M} (out) "Complementary LVDS Output at 100 MHz.", 14 100M (out) "LVDS Output at 100 MHz.", 15 GND (power) "Ground for LVDS Output.", 16 ~{OE} (in) "Output Enable (Active Low). Places both outputs in a high impedance state when high. This pin has a 50 K ohm internal pull-down resistor."